# Altium schematic symbol library ECA Capacitor Radial.SchLib: 136 symbols
Pins are listed as number, name and electrical type; pins without a type are passive.

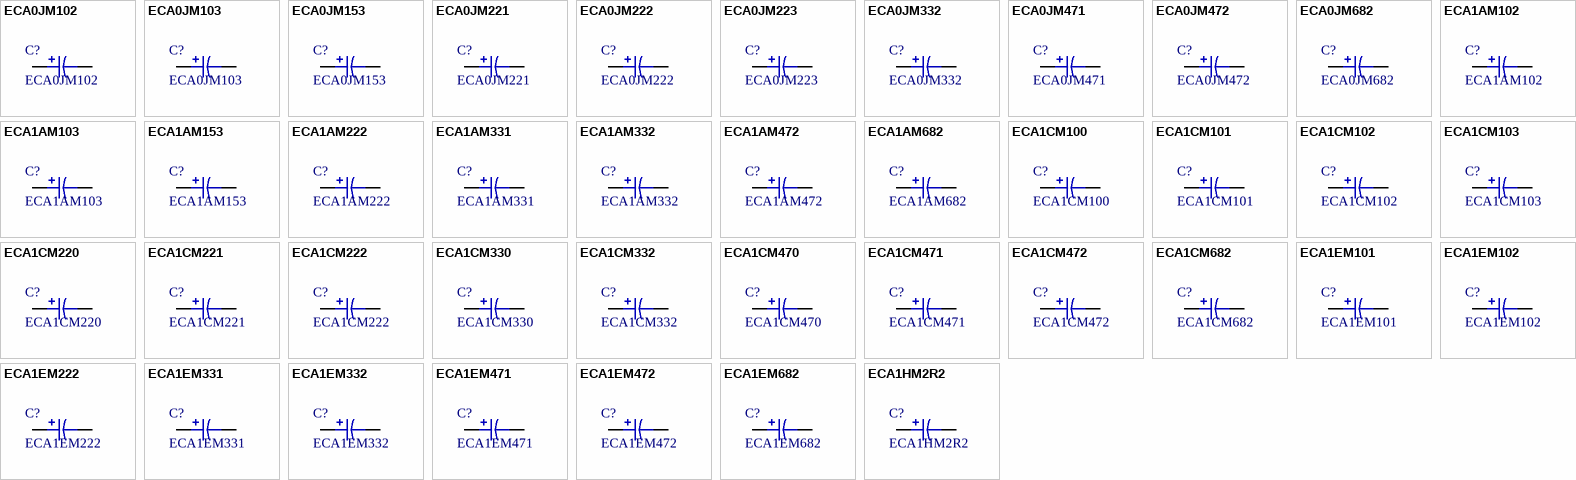
[diagram p0: symbols ECA0JM102 to ECA1HM2R2]

## ECA0JM102
designator C?
1000uF 6V3
footprint ECA 8x11.5
pins: 1, 2

## ECA0JM103
designator C?
10000uF 6V3
footprint ECA 16x25
pins: 1, 2

## ECA0JM153
designator C?
15000uF 6V3
footprint ECA 16x31.5
pins: 1, 2

## ECA0JM221
designator C?
220uF 6V3
footprint ECA 5x11
pins: 1, 2

## ECA0JM222
designator C?
2200uF 6V3
footprint ECA 10x16
pins: 1, 2

## ECA0JM223
designator C?
22000uF 6V3
footprint ECA 18x35.5
pins: 1, 2

## ECA0JM332
designator C?
3300uF 6V3
footprint ECA 10x20
pins: 1, 2

## ECA0JM471
designator C?
470uF 6V3
footprint ECA 6.3x11.2
pins: 1, 2

## ECA0JM472
designator C?
4700uF 6V3
footprint ECA 12.5x20
pins: 1, 2

## ECA0JM682
designator C?
6800uF 6V3
footprint ECA 12.5x25
pins: 1, 2

## ECA1AM102
designator C?
1000uF 10V
footprint ECA 10x12.5
pins: 1, 2

## ECA1AM103
designator C?
10000uF 10V
footprint ECA 16x31.5
pins: 1, 2

## ECA1AM153
designator C?
15000uF 10V
footprint ECA 18x35.5
pins: 1, 2

## ECA1AM222
designator C?
2200uF 10V
footprint ECA 10x20
pins: 1, 2

## ECA1AM331
designator C?
330uF 10V
footprint ECA 6.3x11.2
pins: 1, 2

## ECA1AM332
designator C?
3300uF 10V
footprint ECA 12.5x20
pins: 1, 2

## ECA1AM472
designator C?
4700uF 10V
footprint ECA 12.5x25
pins: 1, 2

## ECA1AM682
designator C?
6800uF 10V
footprint ECA 16x25
pins: 1, 2

## ECA1CM100
designator C?
10uF 16V
footprint ECA 5x11
pins: 1, 2

## ECA1CM101
designator C?
100uF 16V
footprint ECA 5x11
pins: 1, 2

## ECA1CM102
designator C?
1000uF 16V
footprint ECA 10x16
pins: 1, 2

## ECA1CM103
designator C?
10000uF 16V
footprint ECA 18x35.5
pins: 1, 2

## ECA1CM220
designator C?
22uF 16V
footprint ECA 5x11
pins: 1, 2

## ECA1CM221
designator C?
220uF 16V
footprint ECA 6.3x11.2
pins: 1, 2

## ECA1CM222
designator C?
2200uF 16V
footprint ECA 12.5x20
pins: 1, 2

## ECA1CM330
designator C?
33uF 16V
footprint ECA 5x11
pins: 1, 2

## ECA1CM332
designator C?
3300uF 16V
footprint ECA 12.5x25
pins: 1, 2

## ECA1CM470
designator C?
47uF 16V
footprint ECA 5x11
pins: 1, 2

## ECA1CM471
designator C?
470uF 16V
footprint ECA 8x11.5
pins: 1, 2

## ECA1CM472
designator C?
4700uF 16V
footprint ECA 16x25
pins: 1, 2

## ECA1CM682
designator C?
6800uF 16V
footprint ECA 16x31.5
pins: 1, 2

## ECA1EM101
designator C?
100uF 25V
footprint ECA 6.3x11.2
pins: 1, 2

## ECA1EM102
designator C?
1000uF 25V
footprint ECA 10x20
pins: 1, 2

## ECA1EM222
designator C?
2200uF 25V
footprint ECA 12.5x25
pins: 1, 2

## ECA1EM331
designator C?
330uF 25V
footprint ECA 8x11.5
pins: 1, 2

## ECA1EM332
designator C?
3300uF 25V
footprint ECA 16x25
pins: 1, 2

## ECA1EM471
designator C?
470uF 25V
footprint ECA 10x12.5
pins: 1, 2

## ECA1EM472
designator C?
4700uF 25V
footprint ECA 16x31.5
pins: 1, 2

## ECA1EM682
designator C?
6800uF 25V
footprint ECA 18x35.5
pins: 1, 2

## ECA1HM2R2
designator C?
2.2uF 50V
footprint ECA 5x11
pins: 1, 2

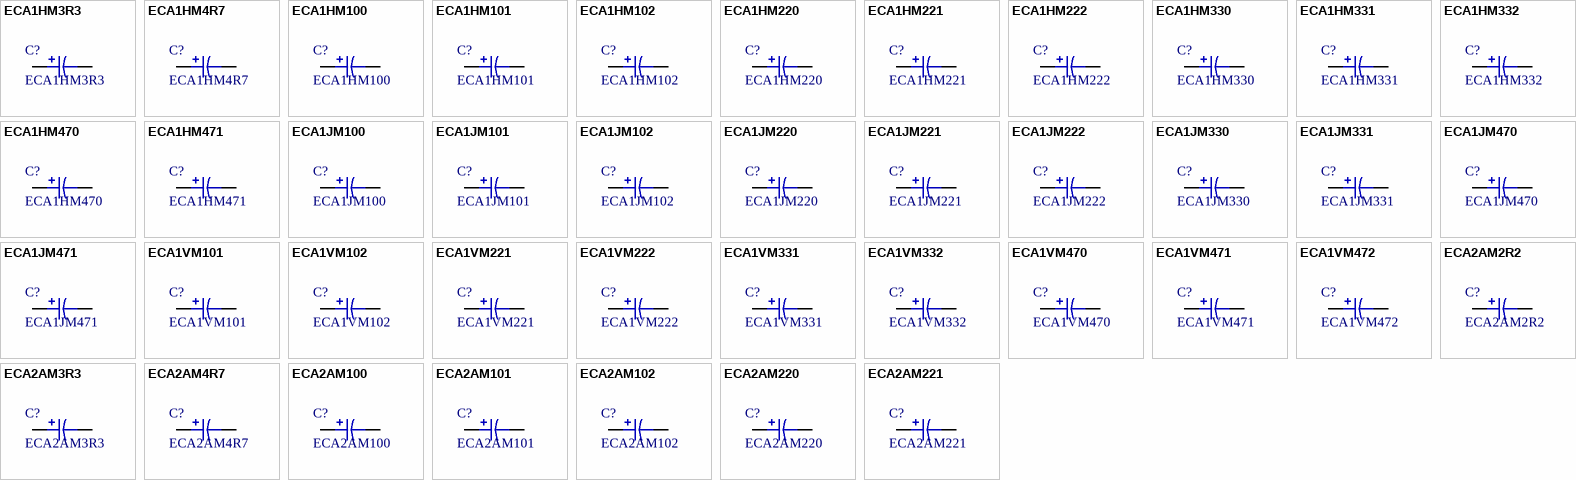
[diagram p1: symbols ECA1HM3R3 to ECA2AM221]

## ECA1HM3R3
designator C?
3.3uF 50V
footprint ECA 5x11
pins: 1, 2

## ECA1HM4R7
designator C?
4.7uF 50V
footprint ECA 5x11
pins: 1, 2

## ECA1HM100
designator C?
10uF 50V
footprint ECA 5x11
pins: 1, 2

## ECA1HM101
designator C?
100uF 50V
footprint ECA 8x11.5
pins: 1, 2

## ECA1HM102
designator C?
1000uF 50V
footprint ECA 12.5x25
pins: 1, 2

## ECA1HM220
designator C?
22uF 50V
footprint ECA 5x11
pins: 1, 2

## ECA1HM221
designator C?
220uF 50V
footprint ECA 10x12.5
pins: 1, 2

## ECA1HM222
designator C?
2200uF 50V
footprint ECA 16x31.5
pins: 1, 2

## ECA1HM330
designator C?
33uF 50V
footprint ECA 5x11
pins: 1, 2

## ECA1HM331
designator C?
330uF 50V
footprint ECA 10x16
pins: 1, 2

## ECA1HM332
designator C?
3300uF 50V
footprint ECA 18x35.5
pins: 1, 2

## ECA1HM470
designator C?
47uF 50V
footprint ECA 6.3x11.2
pins: 1, 2

## ECA1HM471
designator C?
470uF 50V
footprint ECA 10x20
pins: 1, 2

## ECA1JM100
designator C?
10uF 63V
footprint ECA 5x11
pins: 1, 2

## ECA1JM101
designator C?
100uF 63V
footprint ECA 8x11.5
pins: 1, 2

## ECA1JM102
designator C?
1000uF 63V
footprint ECA 16x25
pins: 1, 2

## ECA1JM220
designator C?
22uF 63V
footprint ECA 5x11
pins: 1, 2

## ECA1JM221
designator C?
220uF 63V
footprint ECA 10x16
pins: 1, 2

## ECA1JM222
designator C?
2200uF 63V
footprint ECA 18x35.5
pins: 1, 2

## ECA1JM330
designator C?
33uF 63V
footprint ECA 6.3x11.2
pins: 1, 2

## ECA1JM331
designator C?
330uF 63V
footprint ECA 10x20
pins: 1, 2

## ECA1JM470
designator C?
47uF 63V
footprint ECA 6.3x11.2
pins: 1, 2

## ECA1JM471
designator C?
470uF 63V
footprint ECA 12.5x20
pins: 1, 2

## ECA1VM101
designator C?
100uF 35V
footprint ECA 6.3x11.2
pins: 1, 2

## ECA1VM102
designator C?
1000uF 35V
footprint ECA 12.5x20
pins: 1, 2

## ECA1VM221
designator C?
220uF 35V
footprint ECA 8x11.5
pins: 1, 2

## ECA1VM222
designator C?
2200uF 35V
footprint ECA 16x25
pins: 1, 2

## ECA1VM331
designator C?
330uF 35V
footprint ECA 10x12.5
pins: 1, 2

## ECA1VM332
designator C?
3300uF 35V
footprint ECA 16x31.5
pins: 1, 2

## ECA1VM470
designator C?
47uF 35V
footprint ECA 5x11
pins: 1, 2

## ECA1VM471
designator C?
470uF 35V
footprint ECA 10x16
pins: 1, 2

## ECA1VM472
designator C?
4700uF 35V
footprint ECA 18x35.5
pins: 1, 2

## ECA2AM2R2
designator C?
2.2uF 100V
footprint ECA 5x11
pins: 1, 2

## ECA2AM3R3
designator C?
3.3uF 100V
footprint ECA 5x11
pins: 1, 2

## ECA2AM4R7
designator C?
4.7uF 100V
footprint ECA 5x11
pins: 1, 2

## ECA2AM100
designator C?
10uF 100V
footprint ECA 5x11
pins: 1, 2

## ECA2AM101
designator C?
100uF 100V
footprint ECA 10x16
pins: 1, 2

## ECA2AM102
designator C?
1000uF 100V
footprint ECA 18x35.5
pins: 1, 2

## ECA2AM220
designator C?
22uF 100V
footprint ECA 6.3x11.2
pins: 1, 2

## ECA2AM221
designator C?
220uF 100V
footprint ECA 12.5x20
pins: 1, 2

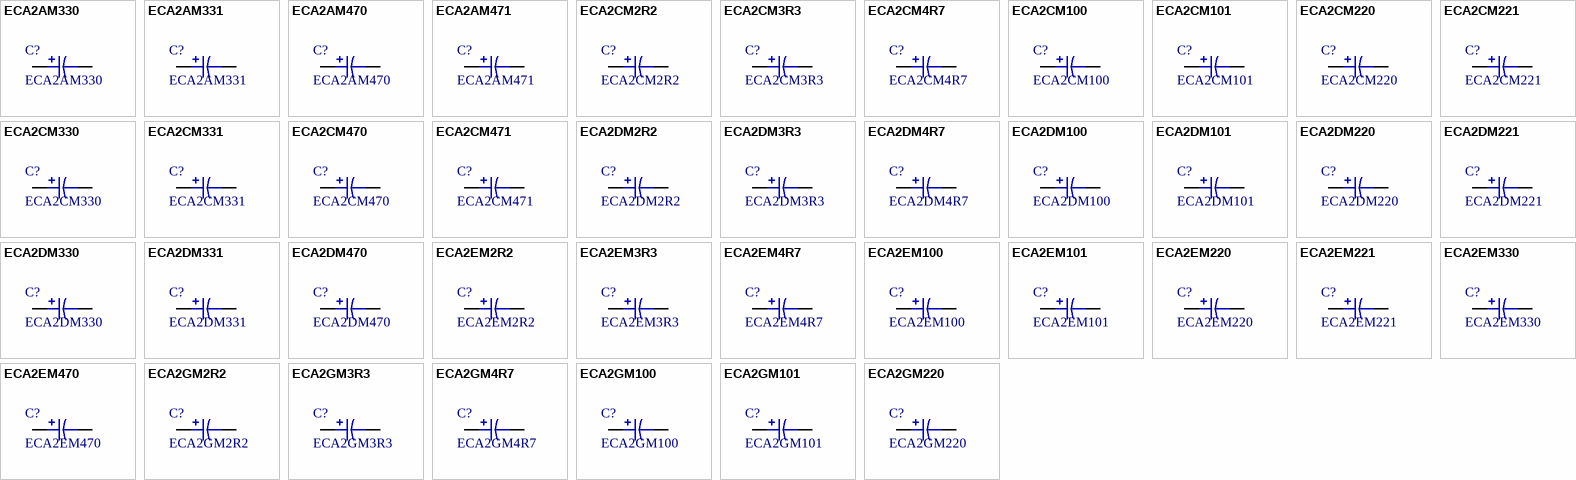
[diagram p2: symbols ECA2AM330 to ECA2GM220]

## ECA2AM330
designator C?
33uF 100V
footprint ECA 8x11.5
pins: 1, 2

## ECA2AM331
designator C?
330uF 100V
footprint ECA 12.5x25
pins: 1, 2

## ECA2AM470
designator C?
47uF 100V
footprint ECA 8x11.5
pins: 1, 2

## ECA2AM471
designator C?
470uF 100V
footprint ECA 16x25
pins: 1, 2

## ECA2CM2R2
designator C?
2.2uF 160V
footprint ECA 6.3x11.2
pins: 1, 2

## ECA2CM3R3
designator C?
3.3uF 160V
footprint ECA 6.3x11.2
pins: 1, 2

## ECA2CM4R7
designator C?
4.7uF 160V
footprint ECA 6.3x11.2
pins: 1, 2

## ECA2CM100
designator C?
10uF 160V
footprint ECA 10x12.5
pins: 1, 2

## ECA2CM101
designator C?
100uF 160V
footprint ECA 12.5x25
pins: 1, 2

## ECA2CM220
designator C?
22uF 160V
footprint ECA 10x16
pins: 1, 2

## ECA2CM221
designator C?
220uF 160V
footprint ECA 16x31.5
pins: 1, 2

## ECA2CM330
designator C?
33uF 160V
footprint ECA 10x20
pins: 1, 2

## ECA2CM331
designator C?
330uF 160V
footprint ECA 18x31.5
pins: 1, 2

## ECA2CM470
designator C?
47uF 160V
footprint ECA 12.5x20
pins: 1, 2

## ECA2CM471
designator C?
470uF 160V
footprint ECA 18x40
pins: 1, 2

## ECA2DM2R2
designator C?
2.2uF 200V
footprint ECA 6.3x11.2
pins: 1, 2

## ECA2DM3R3
designator C?
3.3uF 200V
footprint ECA 6.3x11.2
pins: 1, 2

## ECA2DM4R7
designator C?
4.7uF 200V
footprint ECA 8x11.5
pins: 1, 2

## ECA2DM100
designator C?
10uF 200V
footprint ECA 10x12.5
pins: 1, 2

## ECA2DM101
designator C?
100uF 200V
footprint ECA 16x25
pins: 1, 2

## ECA2DM220
designator C?
22uF 200V
footprint ECA 10x20
pins: 1, 2

## ECA2DM221
designator C?
220uF 200V
footprint ECA 18x31.5
pins: 1, 2

## ECA2DM330
designator C?
33uF 200V
footprint ECA 10x20
pins: 1, 2

## ECA2DM331
designator C?
330uF 200V
footprint ECA 18x40
pins: 1, 2

## ECA2DM470
designator C?
47uF 200V
footprint ECA 12.5x20
pins: 1, 2

## ECA2EM2R2
designator C?
2.2uF 250V
footprint ECA 6.3x11.2
pins: 1, 2

## ECA2EM3R3
designator C?
3.3uF 250V
footprint ECA 8x11.5
pins: 1, 2

## ECA2EM4R7
designator C?
4.7uF 250V
footprint ECA 8x11.5
pins: 1, 2

## ECA2EM100
designator C?
10uF 250V
footprint ECA 10x16
pins: 1, 2

## ECA2EM101
designator C?
100uF 250V
footprint ECA 16x31.5
pins: 1, 2

## ECA2EM220
designator C?
22uF 250V
footprint ECA 10x20
pins: 1, 2

## ECA2EM221
designator C?
220uF 250V
footprint ECA 18x40
pins: 1, 2

## ECA2EM330
designator C?
33uF 250V
footprint ECA 12.5x20
pins: 1, 2

## ECA2EM470
designator C?
47uF 250V
footprint ECA 12.5x25
pins: 1, 2

## ECA2GM2R2
designator C?
2.2uF 400V
footprint ECA 8x11.5
pins: 1, 2

## ECA2GM3R3
designator C?
3.3uF 400V
footprint ECA 10x12.5
pins: 1, 2

## ECA2GM4R7
designator C?
4.7uF 400V
footprint ECA 10x16
pins: 1, 2

## ECA2GM100
designator C?
10uF 400V
footprint ECA 10x20
pins: 1, 2

## ECA2GM101
designator C?
100uF 400V
footprint ECA 18x40
pins: 1, 2

## ECA2GM220
designator C?
22uF 400V
footprint ECA 12.5x25
pins: 1, 2

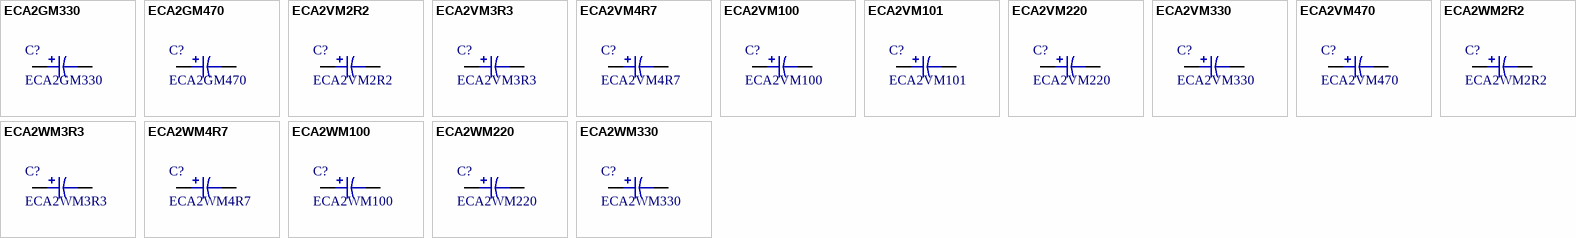
[diagram p3: symbols ECA2GM330 to ECA2WM330]

## ECA2GM330
designator C?
33uF 400V
footprint ECA 16x25
pins: 1, 2

## ECA2GM470
designator C?
47uF 400V
footprint ECA 16x31.5
pins: 1, 2

## ECA2VM2R2
designator C?
2.2uF 350V
footprint ECA 8x11.5
pins: 1, 2

## ECA2VM3R3
designator C?
3.3uF 350V
footprint ECA 8x11.5
pins: 1, 2

## ECA2VM4R7
designator C?
4.7uF 350V
footprint ECA 10x12.5
pins: 1, 2

## ECA2VM100
designator C?
10uF 350V
footprint ECA 10x20
pins: 1, 2

## ECA2VM101
designator C?
100uF 350V
footprint ECA 18x31.5
pins: 1, 2

## ECA2VM220
designator C?
22uF 350V
footprint ECA 12.5x20
pins: 1, 2

## ECA2VM330
designator C?
33uF 350V
footprint ECA 16x25
pins: 1, 2

## ECA2VM470
designator C?
47uF 350V
footprint ECA 16x25
pins: 1, 2

## ECA2WM2R2
designator C?
2.2uF 450V
footprint ECA 10x12.5
pins: 1, 2

## ECA2WM3R3
designator C?
3.3uF 450V
footprint ECA 10x16
pins: 1, 2

## ECA2WM4R7
designator C?
4.7uF 450V
footprint ECA 10x20
pins: 1, 2

## ECA2WM100
designator C?
10uF 450V
footprint ECA 12.5x20
pins: 1, 2

## ECA2WM220
designator C?
22uF 450V
footprint ECA 16x25
pins: 1, 2

## ECA2WM330
designator C?
33uF 450V
footprint ECA 16x31.5
pins: 1, 2